# EAGLE library part ESC_PIN (library tmxk)
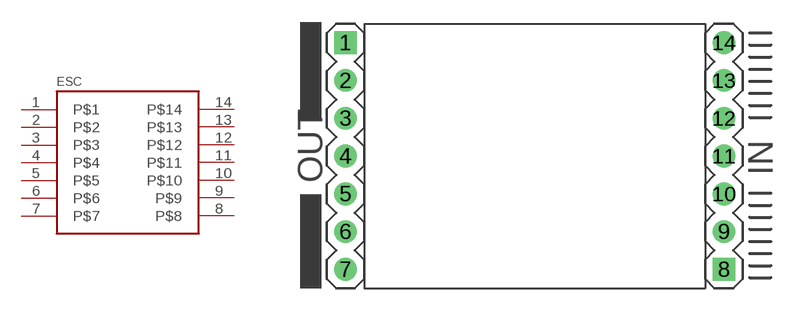
[diagram p20: symbol with the pads of ESC_PIN; footprint ESC_PIN]

Designator prefix ESC

## ESC_PINV1.2版本封装  [ESC_PIN]
1  P$1
2  P$2
3  P$3
4  P$4
5  P$5
6  P$6
7  P$7
8  P$8
9  P$9
10  P$10
11  P$11
12  P$12
13  P$13
14  P$14

## Footprint ESC_PIN (pad centres in mm)
drill 1.016 square: 1 -12.7,7.62; 8 12.7,-7.62
drill 1.016: 2 -12.7,5.08; 3 -12.7,2.54; 4 -12.7,0; 5 -12.7,-2.54; 6 -12.7,-5.08; 7 -12.7,-7.62; 9 12.7,-5.08; 10 12.7,-2.54; 11 12.7,0; 12 12.7,2.54; 13 12.7,5.08; 14 12.7,7.62